# Altium schematic symbol library CH.SchLib: 2 symbols
Pins are listed as number, name and electrical type; pins without a type are passive.

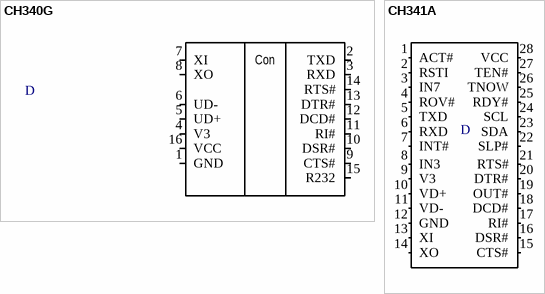
[diagram p0: symbols CH340G to CH341A]

## CH340G
designator D  (value not drawn)
footprint SOP16
pins: 1 GND, 2 TXD, 3 RXD, 4 V3, 5 UD+, 6 UD-, 7 XI, 8 XO, 9 CTS#, 10 DSR#, 11 RI#, 12 DCD#, 13 DTR#, 14 RTS#, 15 R232, 16 VCC
text: Con

## CH341A
designator D  (value not drawn)
footprint SOP127-28N (SOP, 28-Leads, Body 17,73x7,50mm, Pitch 1,27mm, IPC Medium Density)
pins: 1 ACT#, 2 RSTI, 3 IN7, 4 ROV#, 5 TXD, 6 RXD, 7 INT#, 8 IN3, 9 V3, 10 VD+, 11 VD-, 12 GND, 13 XI, 14 XO, 15 CTS#, 16 DSR#, 17 RI#, 18 DCD#, 19 OUT#, 20 DTR#, 21 RTS#, 22 SLP#, 23 SDA, 24 SCL, 25 RDY#, 26 TNOW, 27 TEN#, 28 VCC